# EAGLE library part 6861XX14122_68611414122 (library WR-FPC)
WR-FPC 1.00 mm SMT ZIF Horizontal Top Contact KIND PROPERTIES Pitch 1 mm MATERIAL PROPERTIES Insulator Material PPS Contact Material Phosphor Bronze Contact Plating 100 (µ") Tin over 50 (µ") Nickel Contact Type Stamped <https://www.we-online.com/catalog/media/o33098v209%20Family_WR-FPC_68610414122.jpg> Details see: https://www.we-online.com/catalog/en/FPC_1_00_SMT_ZIF_HORIZONTAL_TOP_CONTACT_6861XX14122/ Updated by Ella Wu 2020-08-26 2020(C) Wurth Elektronik
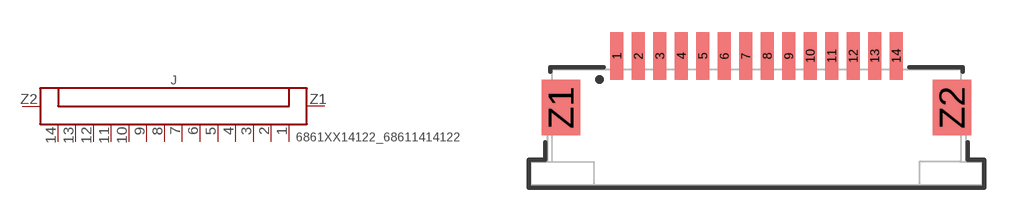
[diagram p126: symbol with the pads of 68611414122; footprint 68611414122]

Designator prefix J

## 6861XX14122_68611414122 (CONTACT-RESISTANCE: 20Ohm; DATASHEET-URL: https://www.we-online.com/catalog/datasheet/68611414122.pdf; IR: 1A; L: 21mm; MATE-WITH: WR-FFC 1.00 mm Flat Flexible Cable Type 1 (Contacts on same side)/ Type 2 (Contacts opposite); PACKAGING: Tape and Reel; PART-NUMBER: 68611414122; PINS: 14; PITCH: 1mm; TYPE: Horizontal; VALUE: 68611414122; WORKING-VOLTAGE: 125V(AC))  [68611414122]
1  1  pas
2  2  pas
3  3  pas
4  4  pas
5  5  pas
6  6  pas
7  7  pas
8  8  pas
9  9  pas
10  10  pas
11  11  pas
12  12  pas
13  13  pas
14  14  pas
Z1  Z1  pas
Z2  Z2  pas

## Footprint 68611414122 (pad centres in mm)
WR-FPC 1.00 mm SMT ZIF Horizontal Top Contact,14 Pins
smd 0.6 x 2.2: 1 -6.5,3.33; 2 -5.5,3.33; 3 -4.5,3.33; 4 -3.5,3.33; 5 -2.5,3.33; 6 -1.5,3.33; 7 -0.5,3.33; 8 0.5,3.33; 9 1.5,3.33; 10 2.5,3.33; 11 3.5,3.33; 12 4.5,3.33; 13 5.5,3.33; 14 6.5,3.33
smd 1.8 x 2.6: Z1 -9.1,0.93; Z2 9.1,0.93